# Altium footprint library SlideSwitch.PcbLib: 4 footprints
Each footprint in its own frame and in the unit in brackets; x right, y up, seen from the top. Pads: shape width x height; smd on the part's side, far side on the other; paste and mask are expansions set on the pad; w line width, h text height; cw(c..) or ccw(c..) is an arc to the next point about the centre after c.
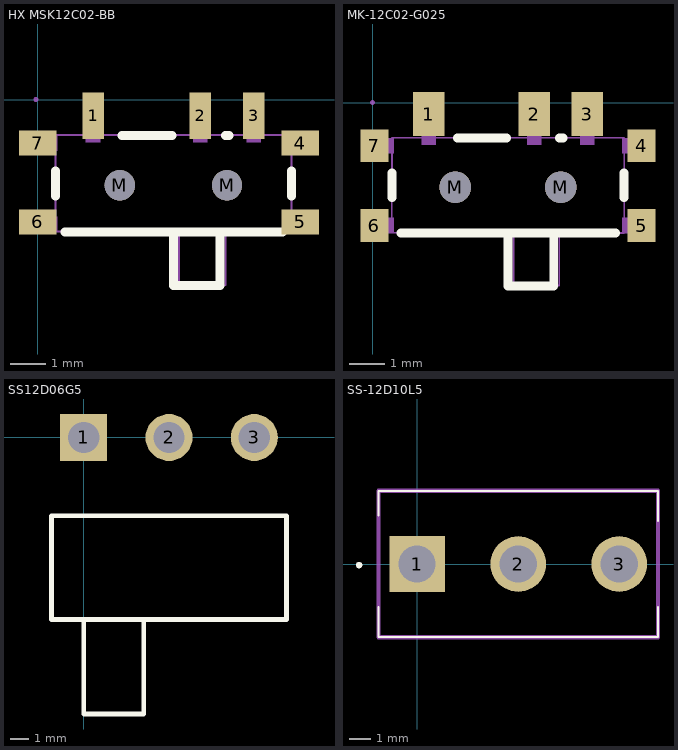
[diagram p0: the footprints below, top view; thin cyan lines are the x and y axes]

## HX MSK12C02-BB [mm] "hanxia(韩下)  推荐封装"
pads (9):
  rect 0.6x1.3 smd: 1(1.55,-0.449) 2(4.55,-0.449) 3(6.05,-0.449)
  rect 1.05x0.7 smd: 4(7.35,-1.22) 5(7.35,-3.42) 6(0,-3.42) 7(0,-1.22)
  round 0.85 hole 0.85 unplated mask+0: M(2.3,-2.399) M(5.3,-2.399)
Top Overlay:
  lines w0.254: 0.5,-2.7 0.5,-2 ; 0.758,-3.705 6.858,-3.705 ; 2.358,-1.005 3.758,-1.005 ; 3.8,-3.705 3.8,-5.205 5.1,-5.205 5.1,-3.705 ; 5.258,-1.005 5.358,-1.005 ; 7.1,-2.7 7.1,-2
Mechanical 15:
  region: 0.007,0.006 0.007,-0.019 -0.028,-0.054 -0.078,-0.054 -0.113,-0.019 -0.113,0.006 -0.113,0.031 -0.078,0.066 -0.028,0.066 0.007,0.031
  region: 1.75,-1.194 1.35,-1.194 1.35,0.006 1.75,0.006
  region: 4.75,-1.194 4.35,-1.194 4.35,0.006 4.75,0.006
  region: 6.25,-1.194 5.85,-1.194 5.85,0.006 6.25,0.006
  region: -0.053,-1.435 -0.053,-1.005 0.547,-1.005 0.547,-1.435
  region: -0.053,-3.705 -0.053,-3.275 0.547,-3.275 0.547,-3.705
  region: 7.056,-1.435 7.056,-1.005 7.656,-1.005 7.656,-1.435
  region: 7.056,-3.705 7.056,-3.275 7.656,-3.275 7.656,-3.705
  lines w0.051: 0.497,-3.696 3.959,-3.696 3.959,-5.196 5.257,-5.196 5.257,-3.7 7.105,-3.7 7.105,-0.994 0.5,-0.994 0.497,-3.531 0.497,-3.696
3D body "HX MSK12C02-BB.STEP": height 1.4, standoff -0.5, extent -0.042,-5.288 7.658,-0.088

## MK-12C02-G025 [mm] "G-Switch(品赞) MK-12C02-G025 柄长2.5mm 滑动开关 推荐封装"
pads (9):
  rect 0.9x1.25 smd: 1(1.592,-0.324) 2(4.592,-0.324) 3(6.092,-0.324)
  rect 0.8x0.93 smd: 4(7.642,-1.22) 5(7.642,-3.49) 6(0.042,-3.49) 7(0.042,-1.22)
  round 0.9 hole 0.9 unplated mask+0: M(2.342,-2.399) M(5.342,-2.399)
Top Overlay:
  lines w0.254: 0.542,-2.7 0.542,-2 ; 0.8,-3.705 6.9,-3.705 ; 2.4,-1.005 3.8,-1.005 ; 3.842,-3.705 3.842,-5.205 5.142,-5.205 5.142,-3.705 ; 5.3,-1.005 5.4,-1.005 ; 7.142,-2.7 7.142,-2
Mechanical 15:
  region: 0.049,0.006 0.049,-0.019 0.014,-0.054 -0.036,-0.054 -0.071,-0.019 -0.071,0.006 -0.071,0.031 -0.036,0.066 0.014,0.066 0.049,0.031
  region: 1.792,-1.194 1.392,-1.194 1.392,0.006 1.792,0.006
  region: 4.792,-1.194 4.392,-1.194 4.392,0.006 4.792,0.006
  region: 6.292,-1.194 5.892,-1.194 5.892,0.006 6.292,0.006
  region: -0.011,-1.435 -0.011,-1.005 0.589,-1.005 0.589,-1.435
  region: -0.011,-3.705 -0.011,-3.275 0.589,-3.275 0.589,-3.705
  region: 7.098,-1.435 7.098,-1.005 7.698,-1.005 7.698,-1.435
  region: 7.098,-3.705 7.098,-3.275 7.698,-3.275 7.698,-3.705
  lines w0.051: 0.539,-3.696 4.001,-3.696 4.001,-5.196 5.299,-5.196 5.299,-3.7 7.147,-3.7 7.147,-0.994 0.542,-0.994 0.539,-3.531 0.539,-3.696
3D body "MK-12C02-G025.STEP": height 1.4, standoff -0.5, extent 0,-5.288 7.7,-0.088

## SS12D06G5 [mm] "G-Switch(品赞) SS-12D06G5 柄长5mm 滑动开关 推荐封装"
pads (3):
  rect 2.59x2.59 hole 1.726: 1(0,0)
  round 2.59 hole 1.726: 2(4.7,0) 3(9.4,0)
Top Overlay:
  lines w0.254: -1.778,-10.033 11.176,-10.033 11.176,-4.318 -1.778,-4.318 -1.778,-10.033 ; 0,-15.24 3.302,-15.24 3.302,-10.033 0,-10.033 0,-15.24
3D body "SS12D06G5.STEP": height 6.8, standoff -2.35, extent -1.775,-15.4 11.175,0.7

## SS-12D10L5 [mm] "XKB Connection(中国星坤) SS-12D10L5 直插滑动开关推荐封装 /  / 孔径待确认，比3D模型小一点"
pads (3):
  rect 2.59x2.59 hole 1.726: 1(0,0)
  round 2.59 hole 1.726: 2(4.7,0) 3(9.4,0)
Top Overlay:
  lines w0.1: -1.8,-3.4 11.2,-3.4 ; -1.8,-3.4 11.2,-3.4 ; -1.8,-3.4 -1.8,-2 -1.8,-3.4 ; -1.8,3.4 -1.8,2.25 -1.8,3.4 ; -1.8,3.4 11.2,3.4 ; -1.8,3.4 11.2,3.4 ; 11.2,-3.4 11.2,-2 11.2,-3.4 ; 11.2,3.4 11.2,2 11.2,3.4
  lines w0.2: -2.7,-0.1 ccw(c-2.7,-0.05) -2.7,0 ; -2.7,-0.1 cw(c-2.7,-0.05) -2.7,0 ; -2.7,-0.1 ccw(c-2.7,-0.05) -2.7,0
Mechanical 15:
  lines w0.2: -1.8,-3.4 11.2,-3.4 11.2,3.4 -1.8,3.4 -1.8,-3.4
3D body "SS-12D10L5.STEP": height 13.1, standoff -5.2, extent -1.8,-3.4 11.2,3.4